# Altium footprint library TemperatureSensor.PcbLib: 1 footprints
Each footprint in its own frame and in the unit in brackets; x right, y up, seen from the top. Pads: shape width x height; smd on the part's side, far side on the other; paste and mask are expansions set on the pad; w line width, h text height; cw(c..) or ccw(c..) is an arc to the next point about the centre after c.
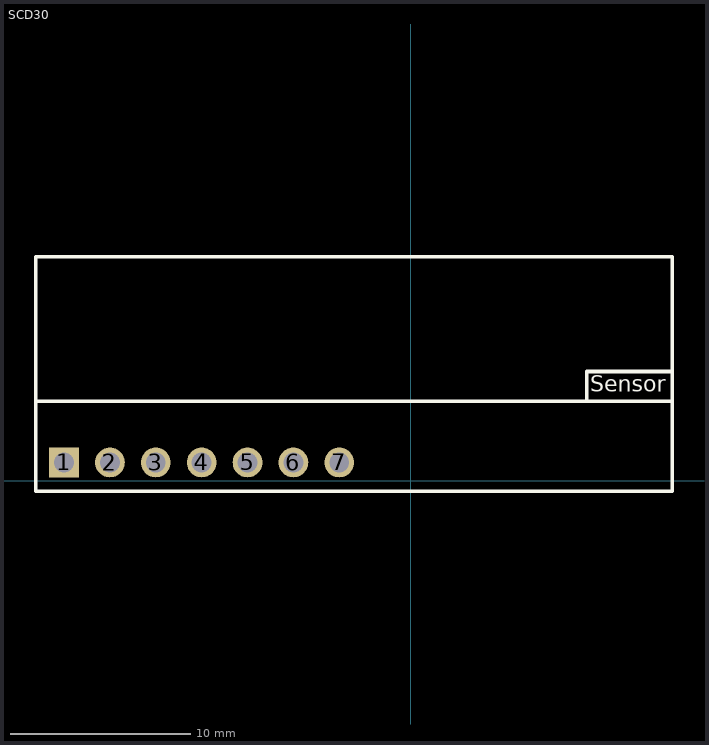
[diagram p0: the footprint, top view; thin cyan lines are the x and y axes]

## SCD30 [mm] "CO2 accuracy of ±(30 ppm + 3% MV) @400-10000 ppm"
pads (7):
  rect 1.65x1.65 hole 1.1: 1(-19.2,1)
  round 1.65 hole 1.1: 2(-16.66,1) 3(-14.12,1) 4(-11.58,1) 5(-9.04,1) 6(-6.5,1) 7(-3.96,1)
Top Overlay:
  lines w0.2: -20.767,4.401 14.483,4.401 ; -12.517,12.401 -10.517,12.401 ; -8.517,12.401 -6.767,12.401 ; -4.767,12.401 -2.767,12.401 ; -2.767,4.401 -1.017,4.401 ; -0.767,12.401 1.233,12.401 ; 0.733,4.401 2.483,4.401 ; 3.233,12.401 4.983,12.401 ; 4.483,4.401 6.233,4.401 ; 6.983,12.401 8.983,12.401 ; 8.233,4.401 9.983,4.401 ; 9.75,4.5 9.75,6.038 14.408,6.038 ; 10.983,12.401 12.983,12.401 ; -20.767,-0.599 14.483,-0.599 14.483,12.401 -20.767,12.401 -20.767,-0.599
  text "Sensor" at 9.954,4.62 h1.52
Mechanical 13:
  lines w0.127: -20.767,-0.599 -20.767,12.401 14.483,12.401 14.483,-0.599 -20.767,-0.599
Mechanical 15:
  lines w0.05: -20.767,-0.599 -20.767,12.401 14.483,12.401 14.483,-0.599 -20.767,-0.599
3D body "022052071.stp": height 2.68, standoff -7.49, extent -20.3,0.592 -2.774,10.041
3D body "SCD30--3DModel-STEP-56544.STEP": height 23.1, standoff 0.1, extent -20.5,4 14.5,11